# Altium footprint library CENTELHADOR (SPARK).PcbLib: 1 footprints
Each footprint in its own frame and in the unit in brackets; x right, y up, seen from the top. Pads: shape width x height; smd on the part's side, far side on the other; paste and mask are expansions set on the pad; w line width, h text height; cw(c..) or ccw(c..) is an arc to the next point about the centre after c.
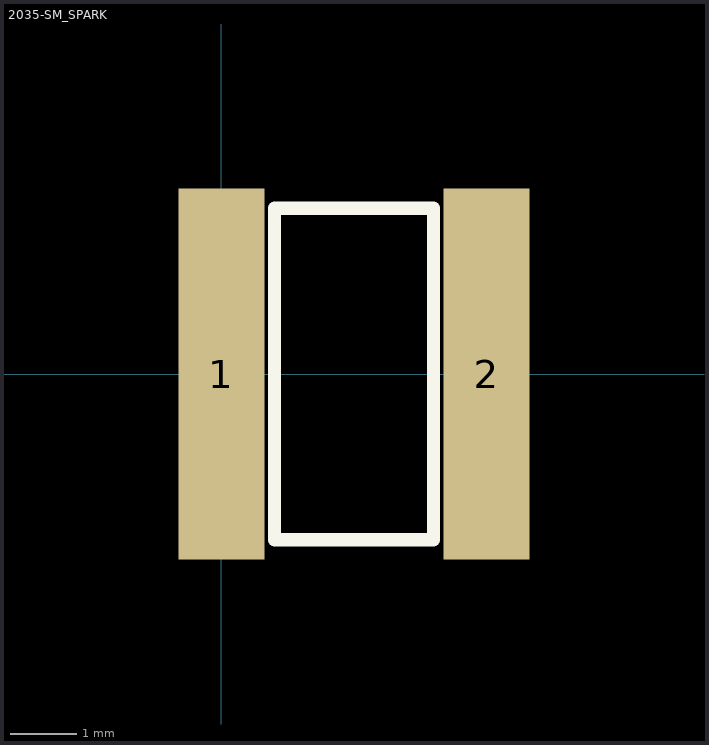
[diagram p0: the footprint, top view; thin cyan lines are the x and y axes]

## 2035-SM_SPARK [mm] "2035-xx-SM , SMD 4.4mm X 5mm"
height 5
pads (2):
  rect 1.3x5.6 smd: 1(0,0) 2(4,0)
Top Overlay:
  lines w0.2: 0.8,-2.5 3.2,-2.5 3.2,2.5 0.8,2.5 0.8,-2.5
3D body: height 5, standoff 0.05, extent 0,-2.497 0.51,2.497
3D body: height 5.05, standoff 0.05, extent 3.655,-2.5 3.985,2.494
3D body: height 5.05, standoff 0.05, extent 0.51,-2.497 3.67,2.497